# EAGLE library part LPC1837JET100 (library everykey)
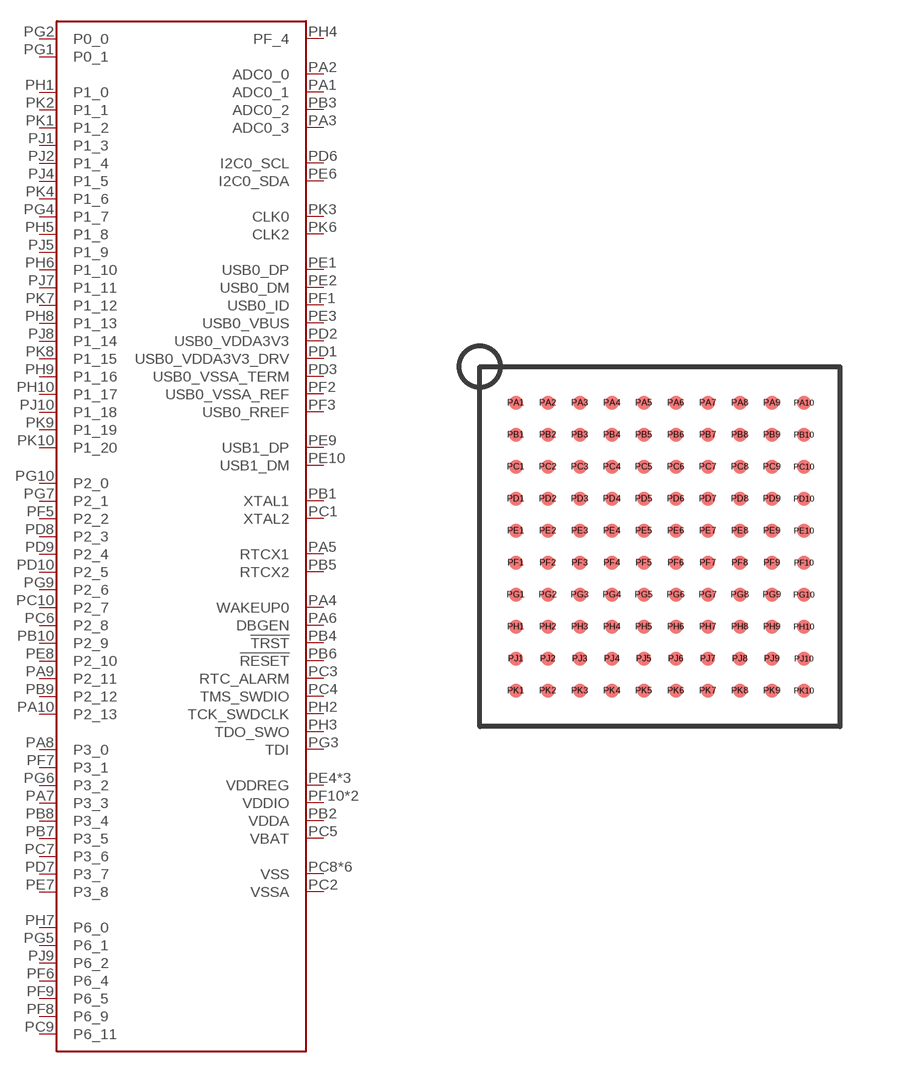
[diagram p13: symbol with the pads of BGA100-0.8; footprint BGA100-0.8]

Designator prefix MCU

## LPC1837JET100TFBGA100(JET100)  [BGA100-0.8]
PA1  ADC0_1
PA2  ADC0_0
PA3  ADC0_3
PA4  WAKEUP0
PA5  RTCX1
PA6  DBGEN
PA7  P3_3
PA8  P3_0
PA9  P2_11
PA10  P2_13
PB1  XTAL1
PB2  VDDA
PB3  ADC0_2
PB4  !TRST
PB5  RTCX2
PB6  !RESET
PB7  P3_5
PB8  P3_4
PB9  P2_12
PB10  P2_9
PC1  XTAL2
PC2  VSSA
PC3  RTC_ALARM
PC4  TMS_SWDIO
PC5  VBAT
PC6  P2_8
PC7  P3_6
PC8  VSS
PC9  P6_11
PC10  P2_7
PD1  USB0_VDDA3V3_DRV  pwr
PD2  USB0_VDDA3V3  pwr
PD3  USB0_VSSA_TERM  pwr
PD4  VSS
PD5  VSS
PD6  I2C0_SCL
PD7  P3_7
PD8  P2_3
PD9  P2_4
PD10  P2_5
PE1  USB0_DP
PE2  USB0_DM
PE3  USB0_VBUS
PE4  VDDREG
PE5  VDDREG
PE6  I2C0_SDA
PE7  P3_8
PE8  P2_10
PE9  USB1_DP
PE10  USB1_DM
PF1  USB0_ID
PF2  USB0_VSSA_REF  pwr
PF3  USB0_RREF
PF4  VDDREG
PF5  P2_2
PF6  P6_4
PF7  P3_1
PF8  P6_9
PF9  P6_5
PF10  VDDIO
PG1  P0_1
PG2  P0_0
PG3  TDI
PG4  P1_7
PG5  P6_1
PG6  P3_2
PG7  P2_1
PG8  VSS
PG9  P2_6
PG10  P2_0
PH1  P1_0
PH2  TCK_SWDCLK
PH3  TDO_SWO
PH4  PF_4
PH5  P1_8
PH6  P1_10
PH7  P6_0
PH8  P1_13
PH9  P1_16
PH10  P1_17
PJ1  P1_3
PJ2  P1_4
PJ3  VSS
PJ4  P1_5
PJ5  P1_9
PJ6  VSS
PJ7  P1_11
PJ8  P1_14
PJ9  P6_2
PJ10  P1_18
PK1  P1_2
PK2  P1_1
PK3  CLK0
PK4  P1_6
PK5  VDDIO
PK6  CLK2
PK7  P1_12
PK8  P1_15
PK9  P1_19
PK10  P1_20

## Footprint BGA100-0.8 (pad centres in mm)
smd 0.35 x 0.35: PA1 -3.6,3.6; PA2 -2.8,3.6; PA3 -2,3.6; PA4 -1.2,3.6; PA5 -0.4,3.6; PA6 0.4,3.6; PA7 1.2,3.6; PA8 2,3.6; PA9 2.8,3.6; PA10 3.6,3.6; PB1 -3.6,2.8; PB2 -2.8,2.8; PB3 -2,2.8; PB4 -1.2,2.8; PB5 -0.4,2.8; PB6 0.4,2.8; PB7 1.2,2.8; PB8 2,2.8; PB9 2.8,2.8; PB10 3.6,2.8; PC1 -3.6,2; PC2 -2.8,2; PC3 -2,2; PC4 -1.2,2; PC5 -0.4,2; PC6 0.4,2; PC7 1.2,2; PC8 2,2; PC9 2.8,2; PC10 3.6,2; PD1 -3.6,1.2; PD2 -2.8,1.2; PD3 -2,1.2; PD4 -1.2,1.2; PD5 -0.4,1.2; PD6 0.4,1.2; PD7 1.2,1.2; PD8 2,1.2; PD9 2.8,1.2; PD10 3.6,1.2; PE1 -3.6,0.4; PE2 -2.8,0.4; PE3 -2,0.4; PE4 -1.2,0.4; PE5 -0.4,0.4; PE6 0.4,0.4; PE7 1.2,0.4; PE8 2,0.4; PE9 2.8,0.4; PE10 3.6,0.4; PF1 -3.6,-0.4; PF2 -2.8,-0.4; PF3 -2,-0.4; PF4 -1.2,-0.4; PF5 -0.4,-0.4; PF6 0.4,-0.4; PF7 1.2,-0.4; PF8 2,-0.4; PF9 2.8,-0.4; PF10 3.6,-0.4; PG1 -3.6,-1.2; PG2 -2.8,-1.2; PG3 -2,-1.2; PG4 -1.2,-1.2; PG5 -0.4,-1.2; PG6 0.4,-1.2; PG7 1.2,-1.2; PG8 2,-1.2; PG9 2.8,-1.2; PG10 3.6,-1.2; PH1 -3.6,-2; PH2 -2.8,-2; PH3 -2,-2; PH4 -1.2,-2; PH5 -0.4,-2; PH6 0.4,-2; PH7 1.2,-2; PH8 2,-2; PH9 2.8,-2; PH10 3.6,-2; PJ1 -3.6,-2.8; PJ2 -2.8,-2.8; PJ3 -2,-2.8; PJ4 -1.2,-2.8; PJ5 -0.4,-2.8; PJ6 0.4,-2.8; PJ7 1.2,-2.8; PJ8 2,-2.8; PJ9 2.8,-2.8; PJ10 3.6,-2.8; PK1 -3.6,-3.6; PK2 -2.8,-3.6; PK3 -2,-3.6; PK4 -1.2,-3.6; PK5 -0.4,-3.6; PK6 0.4,-3.6; PK7 1.2,-3.6; PK8 2,-3.6; PK9 2.8,-3.6; PK10 3.6,-3.6